# Altium schematic symbol library MP2359.SchLib: 1 symbol
Pins are listed as number, name and electrical type; pins without a type are passive.

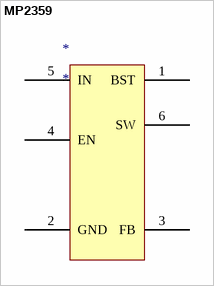
[diagram p0: symbol MP2359]

## MP2359
designator *
pins: 1 BST, 2 GND, 3 FB, 4 EN, 5 IN, 6 SW